# EAGLE library part LCD-SPI-1_8 (library p.peter-periphery)
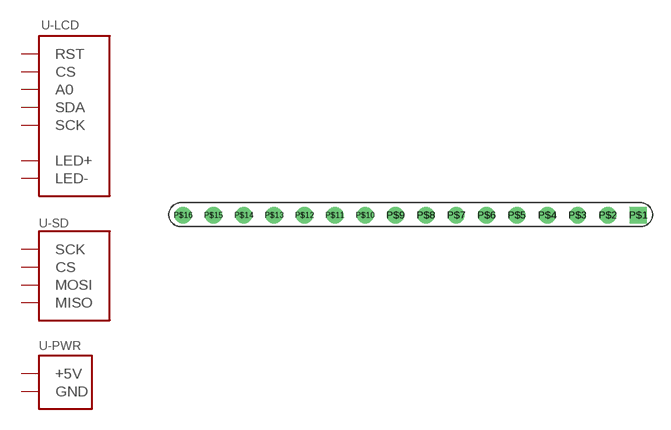
[diagram p10: symbol with the pads of LCD-1_8-EBAY-SPI; footprint LCD-1_8-EBAY-SPI]

Designator prefix -; gates -LCD=LCD_EBAY_SPI -SD=LCD-S6BIT-SDCARD -PWR=LCD-16BIT-PWR

## LCD-SPI-1_8  [LCD-1_8-EBAY-SPI]
P$1  -PWR:GND  pwr
P$2  -PWR:+5V  pwr
P$6  -LCD:RST
P$7  -LCD:A0
P$8  -LCD:SDA
P$9  -LCD:SCK
P$10  -LCD:CS
P$11  -SD:SCK
P$12  -SD:MISO
P$13  -SD:MOSI
P$14  -SD:CS
P$15  -LCD:LED+
P$16  -LCD:LED-

## Footprint LCD-1_8-EBAY-SPI (pad centres in mm)
drill 0.9 square: P$1 19.05,-23.8
drill 0.9: P$2 16.51,-23.8; P$3 13.97,-23.8; P$4 11.43,-23.8; P$5 8.89,-23.8; P$6 6.35,-23.8; P$7 3.81,-23.8; P$8 1.27,-23.8; P$9 -1.27,-23.8; P$10 -3.81,-23.8; P$11 -6.35,-23.8; P$12 -8.89,-23.8; P$13 -11.43,-23.8; P$14 -13.97,-23.8; P$15 -16.51,-23.8; P$16 -19.05,-23.8